# Altium footprint library FootPrintLib_2.PcbLib: 173 footprints (part 3 of 11)
Each footprint in its own frame and in the unit in brackets; x right, y up, seen from the top. Pads: shape width x height; smd on the part's side, far side on the other; paste and mask are expansions set on the pad; w line width, h text height; cw(c..) or ccw(c..) is an arc to the next point about the centre after c.
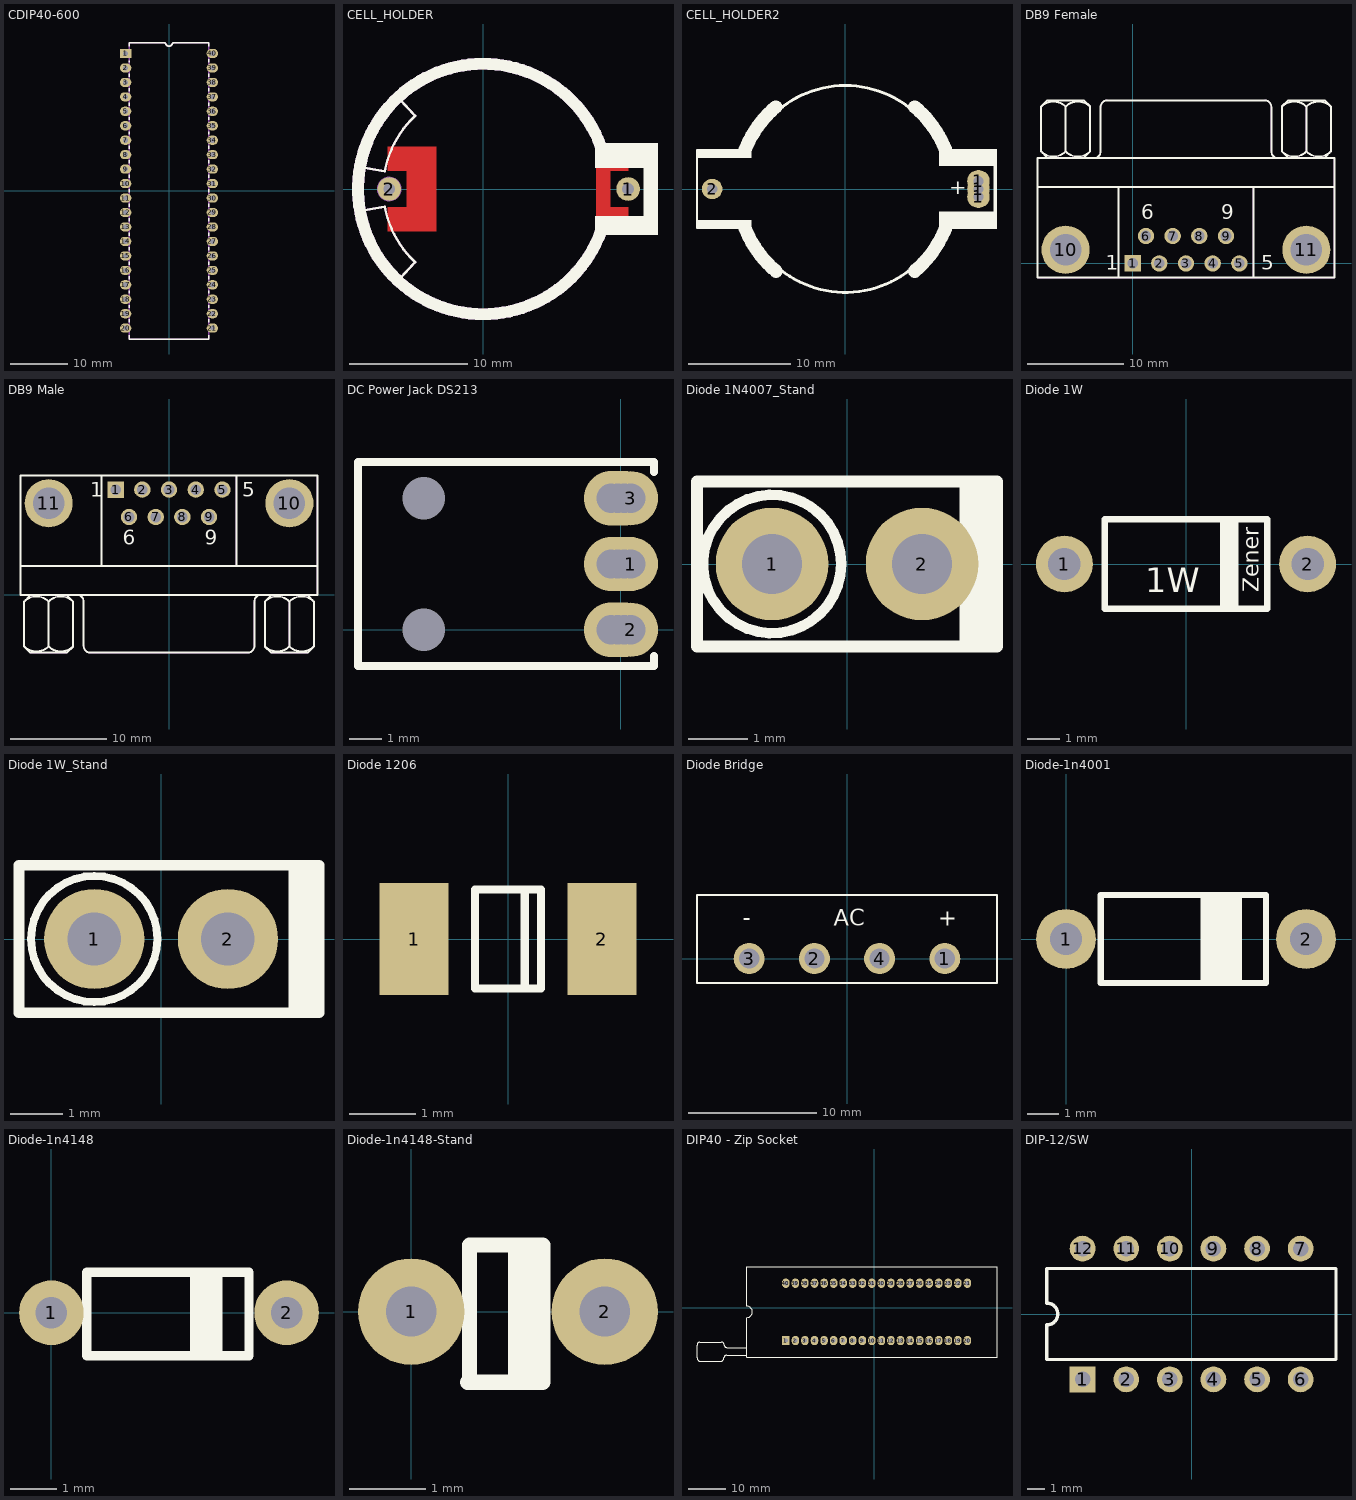
[diagram p2: the footprints below, top view; thin cyan lines are the x and y axes]

## CDIP40-600 [mm] "40-Pin Ceramic DIP (DD40) - WIDE_(600mil width) - 100mil pitch"
height 5.08
pads (40):
  rect 2x1.6 hole 0.9: 1(-7.62,24.13)
  oval 2x1.6 hole 0.9: 2(-7.62,21.59) 3(-7.62,19.05) 4(-7.62,16.51) 5(-7.62,13.97) 6(-7.62,11.43) 7(-7.62,8.89) 8(-7.62,6.35) 9(-7.62,3.81) 10(-7.62,1.27) 11(-7.62,-1.27) 12(-7.62,-3.81) 13(-7.62,-6.35) 14(-7.62,-8.89) 15(-7.62,-11.43) 16(-7.62,-13.97) 17(-7.62,-16.51) 18(-7.62,-19.05) 19(-7.62,-21.59) 20(-7.62,-24.13) 21(7.62,-24.13) 22(7.62,-21.59) 23(7.62,-19.05) 24(7.62,-16.51) 25(7.62,-13.97) 26(7.62,-11.43) 27(7.62,-8.89) 28(7.62,-6.35) 29(7.62,-3.81) 30(7.62,-1.27) 31(7.62,1.27) 32(7.62,3.81) 33(7.62,6.35) 34(7.62,8.89) 35(7.62,11.43) 36(7.62,13.97) 37(7.62,16.51) 38(7.62,19.05) 39(7.62,21.59) 40(7.62,24.13)
Top Overlay:
  lines w0.254: -6.985,-25.4 -6.985,-26.035 6.985,-26.035 6.985,-25.4 ; -6.985,-23.114 -6.985,-22.606 ; -6.985,-20.574 -6.985,-20.066 ; -6.985,-18.034 -6.985,-17.526 ; -6.985,-15.494 -6.985,-14.986 ; -6.985,-12.954 -6.985,-12.446 ; -6.985,-10.414 -6.985,-9.906 ; -6.985,-7.874 -6.985,-7.366 ; -6.985,-5.334 -6.985,-4.826 ; -6.985,-2.794 -6.985,-2.286 ; -6.985,-0.254 -6.985,0.254 ; -6.985,2.286 -6.985,2.794 ; -6.985,4.826 -6.985,5.334 ; -6.985,7.366 -6.985,7.874 ; -6.985,9.906 -6.985,10.414 ; -6.985,12.446 -6.985,12.954 ; -6.985,14.986 -6.985,15.494 ; -6.985,17.526 -6.985,18.034 ; -6.985,20.066 -6.985,20.574 ; -6.985,22.606 -6.985,22.86 ; -6.985,25.4 -6.985,26.035 -0.635,26.035 ccw(c0,26.035) 0.635,26.035 6.985,26.035 6.985,25.4 ; 6.985,-23.114 6.985,-22.606 ; 6.985,-20.574 6.985,-20.066 ; 6.985,-18.034 6.985,-17.526 ; 6.985,-15.494 6.985,-14.986 ; 6.985,-12.954 6.985,-12.446 ; 6.985,-10.414 6.985,-9.906 ; 6.985,-7.874 6.985,-7.366 ; 6.985,-5.334 6.985,-4.826 ; 6.985,-2.794 6.985,-2.286 ; 6.985,-0.254 6.985,0.254 ; 6.985,2.286 6.985,2.794 ; 6.985,4.826 6.985,5.334 ; 6.985,7.366 6.985,7.874 ; 6.985,9.906 6.985,10.414 ; 6.985,12.446 6.985,12.954 ; 6.985,14.986 6.985,15.494 ; 6.985,17.526 6.985,18.034 ; 6.985,20.066 6.985,20.574 ; 6.985,22.606 6.985,23.114
Mechanical 1:
  lines w0.2: 0.635,26.035 6.985,26.035
  lines w0.254: 0.635,26.035 cw(c0,26.035) -0.635,26.035 -6.985,26.035 -6.985,-26.035 6.985,-26.035 6.985,26.035
3D body "DDIP40-600.STEP": height 4, standoff -2, extent -7.745,-26.035 7.745,26.035

## CELL_HOLDER [mm] "Battery Cell Holder"
pads (2):
  round 2 hole 1: 1(12.275,0) 2(-7.95,0)
Top Layer:
  rectangle: -6.475,-3.6 -3.95,3.6
  region: -3.941,1.527 -3.941,3.602 -8.09,3.602 -8.09,1.527
  region: -8.109,-1.527 -8.109,-3.602 -3.959,-3.602 -3.959,-1.527
  region: 12.298,1.534 12.298,3.609 9.573,3.609 9.573,1.534
  region: 9.577,-1.534 9.577,-3.609 12.302,-3.609 12.302,-1.534
  region: 10.802,3.591 9.577,3.591 9.577,-3.609 10.802,-3.609
Top Overlay:
  rectangle: 13.57,-3.877 14.808,3.898
  region: 9.466,3.899 9.466,1.778 14.808,1.778 14.808,3.899
  region: 14.808,-3.902 14.808,-2.286 9.465,-2.286 9.465,-3.902
  lines w0.2: -10.325,-1.85 -8.35,-1.5 ; -10.325,1.85 -8.35,1.5 ; -8.325,-1.496 ccw(c0,0) -5.759,-6.195 -7.1,-7.625 ; -8.325,1.496 cw(c0,0) -5.759,6.195 -7.1,7.625 ; 10.4,-3.8 12.5,-3.8 ; 10.425,3.8 12.5,3.8
  lines w1: 9.948,3.661 ccw(c0,0) 9.959,-3.63
Mechanical 7:
  circle w0.4: c-7.95,0 r0.848
  lines w0.2: -10.325,-1.85 -8.35,-1.5 ; -10.325,1.85 -8.35,1.5 ; -8.325,-1.496 ccw(c0,0) -5.759,-6.195 -7.1,-7.625 ; -8.325,1.496 cw(c0,0) -5.759,6.195 -7.1,7.625 ; 13.796,0.026 14.396,0.026 14.596,0.026 ; 14.196,-0.374 14.196,0.426
  lines w1: 9.948,3.661 ccw(c0,0) 9.959,-3.63

## CELL_HOLDER2 [mm] "Battery Cell Holder"
height 5.5
pads (4):
  round 2.2 hole 1: 1(13,-0.762) 1(13,0) 1(13,0.762)
  round 2 hole 1: 2(-13,0)
Top Overlay:
  rectangle: 14.478,-3.877 14.808,3.898
  region: 9.144,3.899 9.144,2.235 14.808,2.235 14.808,3.899
  region: 14.808,-3.902 14.808,-2.21 9.144,-2.21 9.144,-3.902
  region: -9.144,-3.902 -9.144,-3.048 -14.478,-3.048 -14.478,-3.902
  region: -14.478,3.899 -14.478,3.048 -9.144,3.048 -9.144,3.899
  lines w0.2: -10.425,3.8 -14.478,3.8 -14.478,-3.8 -10.4,-3.8
  lines w0.3: -7.122,-7.161 ccw(c0,0) 7.122,-7.161 ; -6.534,7.701 cw(c0,0) 6.534,7.701
  lines w1.3: -9.801,-3.766 ccw(c0,0) -6.771,-8.025 ; -9.801,3.766 cw(c0,0) -6.793,8.006 ; 6.771,-8.025 ccw(c0,0) 9.801,-3.766 ; 6.793,8.006 cw(c0,0) 9.801,3.766
  text "+" at 10.16,-0.508 h1.5
3D body "CELL_HOLDER.STEP": height 5.4, standoff -2, extent -14.25,-9.999 14.25,9.999

## DB9 Female [mm] "Connector; D Subminiature AMPLIMITE 2000; 9 Position; Right Angle"
height 12.75
pads (11):
  rect 1.7x1.7 hole 1.1: 1(0,0)
  round 1.7 hole 1.1: 2(2.77,0) 3(5.54,0) 4(8.31,0) 5(11.08,0) 6(1.385,2.84) 7(4.155,2.84) 8(6.925,2.84) 9(9.695,2.84)
  round 5 hole 3.26: 10(-6.955,1.42) 11(18.035,1.42)
Top Overlay:
  lines w0.2: -9.86,7.92 20.94,7.92 ; -9.498,16.27 -9.498,11.619 -8.863,10.984 ; -9.498,16.285 -8.863,16.92 -5.053,16.92 -4.418,16.285 ; -6.958,11.619 -6.958,16.27 ; -5.053,10.984 -4.418,11.619 -4.418,16.27 ; -4.418,15.006 -4.418,15.218 ; -4.02,10.925 ccw(c-4.02,11.62) -3.325,11.62 -3.325,16.22 ; -3.32,16.225 cw(c-2.625,16.225) -2.625,16.92 13.705,16.92 cw(c13.705,16.225) 14.4,16.225 ; -1.46,-1.48 -1.46,7.92 ; 12.54,-1.48 12.54,7.92 ; 14.405,16.22 14.405,11.62 ccw(c15.1,11.62) 15.1,10.925 ; 15.502,16.27 15.502,11.619 16.137,10.984 ; 15.502,16.285 16.137,16.92 19.947,16.92 20.582,16.285 ; 18.042,11.619 18.042,16.27 ; 19.947,10.984 20.582,11.619 20.582,16.27 ; 20.582,15.006 20.582,15.218 ; -9.86,-1.48 -9.86,10.92 20.94,10.92 20.94,-1.48 -9.86,-1.48
  lines w0.203: -9.5,11.617 ccw(c-8.228,12.889) -6.956,11.617 ; -9.498,16.27 cw(c-8.226,14.998) -6.953,16.27 ; -6.962,16.27 cw(c-5.69,14.998) -4.418,16.27 ; -6.96,11.617 ccw(c-5.688,12.889) -4.416,11.617 ; 15.5,11.617 ccw(c16.772,12.889) 18.044,11.617 ; 15.502,16.27 cw(c16.774,14.998) 18.047,16.27 ; 18.038,16.27 cw(c19.31,14.998) 20.582,16.27 ; 18.04,11.617 ccw(c19.312,12.889) 20.584,11.617
  text "1" at -2.794,-0.64 h1.5
  text "5" at 13.335,-0.64 h1.5
  text "9" at 9.2,4.6 h1.5
  text "6" at 0.9,4.6 h1.5
Mechanical 1:
  lines w0.1: -4.02,10.925 ccw(c-4.02,11.62) -3.325,11.62 ; -3.32,16.225 cw(c-2.625,16.225) -2.625,16.92 ; 13.705,16.92 cw(c13.705,16.225) 14.4,16.225 ; 14.405,11.62 ccw(c15.1,11.62) 15.1,10.925
Mechanical 13:
  lines w0.1: -9.86,7.92 20.94,7.92 ; -9.5,11.617 ccw(c-8.228,12.889) -6.956,11.617 ; -9.498,16.285 -8.863,16.92 -5.053,16.92 -4.418,16.285 ; -8.863,10.984 -9.498,11.619 -9.498,16.27 cw(c-8.226,14.998) -6.953,16.27 ; -6.962,16.27 cw(c-5.69,14.998) -4.418,16.27 -4.418,11.619 -5.053,10.984 ; -6.96,11.617 ccw(c-5.688,12.889) -4.416,11.617 ; -6.958,11.619 -6.958,16.27 ; -4.418,15.006 -4.418,15.218 ; -3.325,11.62 -3.325,16.22 ; -2.625,16.92 13.705,16.92 ; -1.46,-1.48 -1.46,7.92 ; 12.54,-1.48 12.54,7.92 ; 14.405,11.62 14.405,16.22 ; 15.5,11.617 ccw(c16.772,12.889) 18.044,11.617 ; 15.502,16.285 16.137,16.92 19.947,16.92 20.582,16.285 ; 16.137,10.984 15.502,11.619 15.502,16.27 cw(c16.774,14.998) 18.047,16.27 ; 18.038,16.27 cw(c19.31,14.998) 20.582,16.27 20.582,11.619 19.947,10.984 ; 18.04,11.617 ccw(c19.312,12.889) 20.584,11.617 ; 18.042,11.619 18.042,16.27 ; 20.582,15.006 20.582,15.218 ; -9.86,-1.48 -9.86,10.92 20.94,10.92 20.94,-1.48 -9.86,-1.48
3D body "9-PIN_DSUB-1.STEP": height 12.71, standoff -3.01, extent -9.865,-2.034 20.945,17.041

## DB9 Male [mm] "Connector; D Subminiature AMPLIMITE 2000; 9 Position; Right Angle"
height 12.75
pads (11):
  rect 1.7x1.7 hole 1.1: 1(-5.54,10.92)
  round 1.7 hole 1.1: 2(-2.77,10.92) 3(0,10.92) 4(2.77,10.92) 5(5.54,10.92) 6(-4.155,8.08) 7(-1.385,8.08) 8(1.385,8.08) 9(4.155,8.08)
  round 5 hole 3.26: 10(12.495,9.5) 11(-12.495,9.5)
Top Overlay:
  lines w0.2: -15.4,3 15.4,3 ; -15.042,-5.365 -14.407,-6 -10.597,-6 -9.962,-5.365 ; -15.042,-5.35 -15.042,-0.699 -14.407,-0.064 ; -15.042,-4.298 -15.042,-4.086 ; -12.502,-5.35 -12.502,-0.699 ; -10.597,-0.064 -9.962,-0.699 -9.962,-5.35 ; -9.56,-0.005 cw(c-9.56,-0.7) -8.865,-0.7 -8.865,-5.3 ; -8.86,-5.305 ccw(c-8.165,-5.305) -8.165,-6 8.165,-6 ccw(c8.165,-5.305) 8.86,-5.305 ; -7,3 -7,12.4 ; 7,3 7,12.4 ; 8.865,-5.3 8.865,-0.7 cw(c9.56,-0.7) 9.56,-0.005 ; 9.958,-5.365 10.593,-6 14.403,-6 15.038,-5.365 ; 9.958,-5.35 9.958,-0.699 10.593,-0.064 ; 9.958,-4.298 9.958,-4.086 ; 12.498,-5.35 12.498,-0.699 ; 14.403,-0.064 15.038,-0.699 15.038,-5.35 ; -15.4,0 -15.4,12.4 15.4,12.4 15.4,0 -15.4,0
  lines w0.203: -15.044,-0.697 cw(c-13.772,-1.969) -12.5,-0.697 ; -15.042,-5.35 ccw(c-13.77,-4.078) -12.498,-5.35 ; -12.507,-5.35 ccw(c-11.234,-4.078) -9.962,-5.35 ; -12.504,-0.697 cw(c-11.232,-1.969) -9.96,-0.697 ; 9.956,-0.697 cw(c11.228,-1.969) 12.5,-0.697 ; 9.958,-5.35 ccw(c11.23,-4.078) 12.502,-5.35 ; 12.493,-5.35 ccw(c13.766,-4.078) 15.038,-5.35 ; 12.496,-0.697 cw(c13.768,-1.969) 15.04,-0.697
  text "6" at -4.8,5.2 h1.5
  text "1" at -8.165,10.2 h1.5
  text "9" at 3.7,5.2 h1.5
  text "5" at 7.6,10.2 h1.5
Mechanical 13:
  lines w0.1: -15.4,3 15.4,3 ; -15.044,-0.697 cw(c-13.772,-1.969) -12.5,-0.697 ; -15.042,-5.365 -14.407,-6 -10.597,-6 -9.962,-5.365 ; -15.042,-4.298 -15.042,-4.086 ; -14.407,-0.064 -15.042,-0.699 -15.042,-5.35 ccw(c-13.77,-4.078) -12.498,-5.35 ; -12.507,-5.35 ccw(c-11.234,-4.078) -9.962,-5.35 -9.962,-0.699 -10.597,-0.064 ; -12.504,-0.697 cw(c-11.232,-1.969) -9.96,-0.697 ; -12.502,-5.35 -12.502,-0.699 ; -9.56,-0.005 cw(c-9.56,-0.7) -8.865,-0.7 -8.865,-5.3 ; -8.86,-5.305 ccw(c-8.165,-5.305) -8.165,-6 8.165,-6 ccw(c8.165,-5.305) 8.86,-5.305 ; -7,3 -7,12.4 ; 7,3 7,12.4 ; 8.865,-5.3 8.865,-0.7 cw(c9.56,-0.7) 9.56,-0.005 ; 9.956,-0.697 cw(c11.228,-1.969) 12.5,-0.697 ; 9.958,-5.365 10.593,-6 14.403,-6 15.038,-5.365 ; 9.958,-4.298 9.958,-4.086 ; 10.593,-0.064 9.958,-0.699 9.958,-5.35 ccw(c11.23,-4.078) 12.502,-5.35 ; 12.493,-5.35 ccw(c13.766,-4.078) 15.038,-5.35 15.038,-0.699 14.403,-0.064 ; 12.496,-0.697 cw(c13.768,-1.969) 15.04,-0.697 ; 12.498,-5.35 12.498,-0.699 ; -15.4,0 -15.4,12.4 15.4,12.4 15.4,0 -15.4,0
3D body "9-PIN_DSUB.STEP": height 12.77, standoff -2.95, extent -15.483,-6.688 15.403,12.997

## DC Power Jack DS213 [mm] "DC Power Jack Model DS-213"
height 5
pads (5):
  round 1.651 hole 0.889: 1(0.3,2) 2(0.3,0) 3(0.3,4)
  round 0 hole 1.3: MH(-6,0) MH(-6,4)
via 0.1,4 diameter 1.651 hole 0.889
via -0.1,4 diameter 1.651 hole 0.889
via -0.3,4 diameter 1.651 hole 0.889
via 0.1,2 diameter 1.651 hole 0.889
via -0.1,2 diameter 1.651 hole 0.889
via -0.3,2 diameter 1.651 hole 0.889
via 0.1,0 diameter 1.651 hole 0.889
via -0.1,0 diameter 1.651 hole 0.889
via -0.3,0 diameter 1.651 hole 0.889
Top Overlay:
  lines w0.25: 1,-0.8 1,-1.1 -8,-1.1 -8,5.1 1,5.1 1,4.8
3D body "User Library-DS-213.STEP": height 5, standoff -3.5, extent -8,-1.1 1,5.1

## Diode 1N4007_Stand [mil]
pads (2):
  round 75 hole 40: 1(-50,0) 2(50,0)
Top Overlay:
  circle w7: c-50,0 r46.1
  rectangle: 75,-52 100,53
  lines w7.87: -100,-55 -100,55 100,55 100,-55 -100,-55
3D body "1N4007_Stand.STEP": height 291.09, standoff -39.37, extent -103,-52 65,53

## Diode 1W [mil]
height 122.05
pads (2):
  round 70 hole 40: 1(-150,0) 2(150,0)
Top Overlay:
  rectangle: 42,-55 65,55
  lines w7.87: -100,-55 -100,55 100,55 100,-55 -100,-55
  text "1W" at -50,-35 h30
  text "Zener" at 90,-35 h19.68
3D body "Zener 1W.STEP": height 131.24, standoff -39.37, extent -166,-52.5 165,52.5

## Diode 1W_Stand [mil]
pads (2):
  round 75 hole 40: 1(-50,0) 2(50,0)
Top Overlay:
  circle w5.91: c-50,0 r47.24
  rectangle: 95.47,-55 118.11,55
  lines w7.87: -106.3,-55 -106.3,55 118.11,55 118.11,-55 -106.3,-55
3D body "Zener 1W_Stand.STEP": height 291.09, standoff -39.37, extent -103,-52 65,53

## Diode 1206 [mm]
pads (2):
  rect 1.05x1.7 smd: 1(-1.425,0) 2(1.425,0)
Top Overlay:
  lines w0.127: 0.254,-0.75 0.254,0.75 ; -0.5,-0.75 -0.5,0.75 0.5,0.75 0.5,-0.75 -0.5,-0.75

## Diode Bridge [mil]
pads (4):
  round 95 hole 62: 1(300,0) 2(-100,0) 3(-300,0) 4(100,0)
Top Overlay:
  lines w7: -460,-75 460,-75 460,195 -460,195 -460,-75
  text "AC" at -40,100 h50
  text "-" at -320,100 h50
  text "+" at 280,100 h50
3D body "KBU8M.STEP": height 759.84, standoff -157.48, extent -455,-75 458.39,195.08

## Diode-1n4001 [mil]
pads (2):
  round 75 hole 40: 1(0,0) 2(300,0)
Top Overlay:
  rectangle: 167.83,-59.06 220,59.06
  lines w7.87: 43.31,-55 250,-55 250,55 43.31,55 43.31,-55
3D body "1N4007.STEP": height 131.24, standoff -39.37, extent -16,-52.5 315,52.5

## Diode-1n4148 [mil]
pads (2):
  round 55 hole 27: 1(0,0) 2(200,0)
Top Overlay:
  rectangle: 117.72,-36.5 145.28,34.37
  lines w7.87: 30.12,-36.5 30.12,34.37 167.91,34.37 167.91,-36.5 30.12,-36.5
3D body "1N4148.STEP": height 71.22, standoff -40, extent -6.5,-31.96 210.5,33

## Diode-1n4148-Stand [mil]
pads (2):
  round 55 hole 26: 1(0,0) 2(100,0)
Top Overlay:
  rectangle: 50,-36.87 66,34
  lines w7.87: 29.12,-36.5 67,-36.5 ; 30.12,-36.5 30.12,34.37 68,34.37 68,-36.5
3D body "1N4148_Stand_V2008.STEP": height 216.61, standoff -40, extent -32,-32 108.98,32.96

## DIP40 - Zip Socket [mm] "40 Pin Zip Socket"
height 12
pads (40):
  rect 2x2.5 hole 1.1: 1(-23.495,-8.763)
  oval 2x2.5 hole 1.1: 2(-20.955,-8.763) 3(-18.415,-8.763) 4(-15.875,-8.763) 5(-13.335,-8.763) 6(-10.795,-8.763) 7(-8.255,-8.763) 8(-5.715,-8.763) 9(-3.175,-8.763) 10(-0.635,-8.763) 11(1.905,-8.763) 12(4.445,-8.763) 13(6.985,-8.763) 14(9.525,-8.763) 15(12.065,-8.763) 16(14.605,-8.763) 17(17.145,-8.763) 18(19.685,-8.763) 19(22.225,-8.763) 20(24.765,-8.763) 21(24.765,6.477) 22(22.225,6.477) 23(19.685,6.477) 24(17.145,6.477) 25(14.605,6.477) 26(12.065,6.477) 27(9.525,6.477) 28(6.985,6.477) 29(4.445,6.477) 30(1.905,6.477) 31(-0.635,6.477) 32(-3.175,6.477) 33(-5.715,6.477) 34(-8.255,6.477) 35(-10.795,6.477) 36(-13.335,6.477) 37(-15.875,6.477) 38(-18.415,6.477) 39(-20.955,6.477) 40(-23.495,6.477)
Top Overlay:
  lines w0.2: -33.865,-12.7 -39.268,-12.7 ccw(c-39.268,-13.386) -39.954,-13.386 cw(c-40.843,-13.386) -40.843,-14.275 -46.177,-14.275 cw(c-46.177,-13.341) -47.111,-13.341 -47.111,-9.951 cw(c-46.33,-9.951) -46.33,-9.169 -40.634,-9.169 cw(c-40.634,-9.951) -39.853,-9.951 ccw(c-39.16,-9.951) -39.16,-10.643 -33.865,-10.643 ; -33.865,-13.143 -33.865,-2.643 ccw(c-33.865,-1.143) -33.865,0.357 -33.865,10.857 32.635,10.857 32.635,-13.143 -33.865,-13.143
3D body "Zif-Zip Socket.STEP": height 21.95, standoff -2.53, extent -40.944,-14.118 32.11,10.358

## DIP-12/SW [mm] "DIP Switch; 12 Leads"
height 5.8
pads (12):
  rect 1.5x1.5 hole 0.9: 1(-6.35,-3.81)
  round 1.5 hole 0.9: 2(-3.81,-3.81) 3(-1.27,-3.81) 4(1.27,-3.81) 5(3.81,-3.81) 6(6.35,-3.81) 7(6.35,3.81) 8(3.81,3.81) 9(1.27,3.81) 10(-1.27,3.81) 11(-3.81,3.81) 12(-6.35,3.81)
Top Overlay:
  lines w0.2: -8.43,-2.65 8.41,-2.65 8.41,2.65 -8.43,2.65 -8.43,0.635 cw(c-8.43,0) -8.43,-0.635 -8.43,-2.65